# EAGLE library part ARDUINO_UNO (library talons-microcontrollers)
Arduino Uno https://www.arduino.cc/en/Main/ArduinoBoardUno
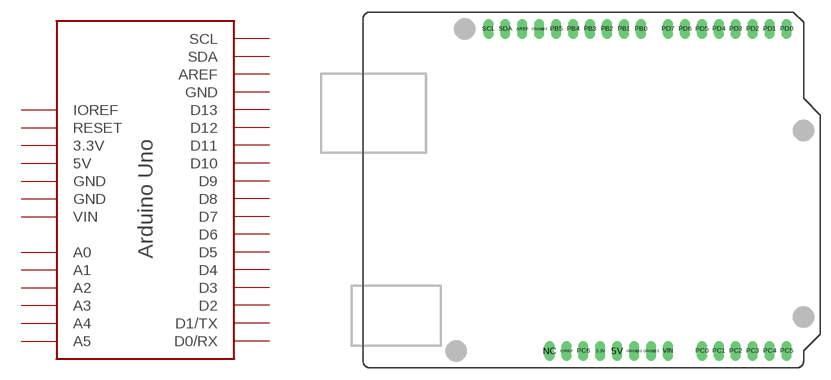
[diagram p6: symbol with the pads of ARDUINO_UNO_R3; footprint ARDUINO_UNO_R3]

Designator prefix -

## ARDUINO_UNO  [ARDUINO_UNO_R3]
3.3V  3.3V  pwr
5V  5V  pwr
AREF  AREF
GND@1  GND  pwr
GND@2  GND  pwr
GND@3  GND  pwr
IOREF  IOREF
PB0  D8
PB1  D9
PB2  D10
PB3  D11
PB4  D12
PB5  D13
PC0  A0
PC1  A1
PC2  A2
PC3  A3
PC4  A4
PC5  A5
PC6  RESET  in
PD0  D0/RX
PD1  D1/TX
PD2  D2
PD3  D3
PD4  D4
PD5  D5
PD6  D6
PD7  D7
SCL  SCL
SDA  SDA
VIN  VIN  pwr

## Footprint ARDUINO_UNO_R3 (pad centres in mm)
drill 1 long: 3.3V 4.445,-24.13; 5V 6.985,-24.13; AREF -7.239,24.13; GND@1 12.065,-24.13; GND@2 9.525,-24.13; GND@3 -4.699,24.13; IOREF -0.635,-24.13; NC -3.175,-24.13; PB0 10.541,24.13; PB1 8.001,24.13; PB2 5.461,24.13; PB3 2.921,24.13; PB4 0.381,24.13; PB5 -2.159,24.13; PC0 19.685,-24.13; PC1 22.225,-24.13; PC2 24.765,-24.13; PC3 27.305,-24.13; PC4 29.845,-24.13; PC5 32.385,-24.13; PC6 1.905,-24.13; PD0 32.385,24.13; PD1 29.845,24.13; PD2 27.305,24.13; PD3 24.765,24.13; PD4 22.225,24.13; PD5 19.685,24.13; PD6 17.145,24.13; PD7 14.605,24.13; SCL -12.319,24.13; SDA -9.779,24.13; VIN 14.605,-24.13